# EAGLE library part DAC_AD568* (library HyTechDevices-ltc4421 components)
4-Channel 5V 12-Bit DAC Datasheet <https://www.mouser.com/datasheet/2/609/AD5686R_5685R_5684R-1501714.pdf>
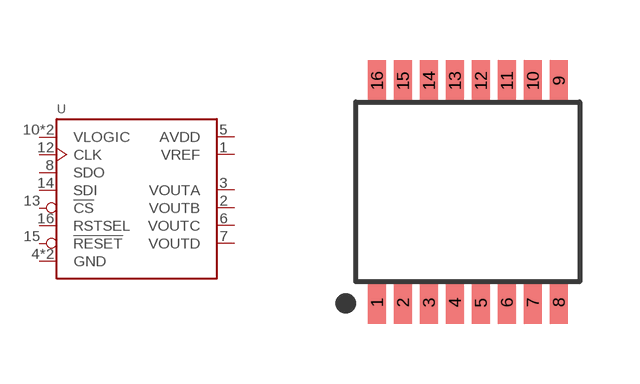
[diagram p30: symbol with the pads of TSSOP-16; footprint TSSOP-16]

Designator prefix U

## DAC_AD5684RBRUZ (CHANNELS: 4; DKPN: AD5684RBRUZ-ND; MANUFACTURER: Analog Devices Inc.; MOPN: 584-AD5684RBRUZ; MPN: AD5684BRUZ; RESOLUTION: 12-Bit)  [TSSOP-16]
1  VREF
2  VOUTB  out
3  VOUTA  out
4  GND  pwr
5  AVDD  pwr
6  VOUTC  out
7  VOUTD  out
8  SDO  out
9  GND  pwr
10  VLOGIC  pwr
11  VLOGIC  pwr
12  CLK  in
13  !CS  in
14  SDI  in
15  !RESET  in
16  RSTSEL  in

## Footprint TSSOP-16 (pad centres in mm)
TSSOP 16 Adapted from TSSOP-14 Datasheet <https://www.analog.com/media/en/package-pcb-resources/package/pkg_pdf/ltc-legacy-tssop/TSSOP_14_05-08-1650.pdf> and TSSOP-20 Datasheet <https://www.analog.com/media/en/package-pcb-resources/package/pkg_pdf/ltc-legacy-tssop/TSSOP_20_05-08-1650.pdf>
smd 0.45 x 1.05: 1 -2.275,-2.775; 2 -1.625,-2.775; 3 -0.975,-2.775; 4 -0.325,-2.775; 5 0.325,-2.775; 6 0.975,-2.775; 7 1.625,-2.775; 8 2.275,-2.775; 9 2.275,2.775; 10 1.625,2.775; 11 0.975,2.775; 12 0.325,2.775; 13 -0.325,2.775; 14 -0.975,2.775; 15 -1.625,2.775; 16 -2.275,2.775